# EAGLE library part M08 (library pierre_vv)
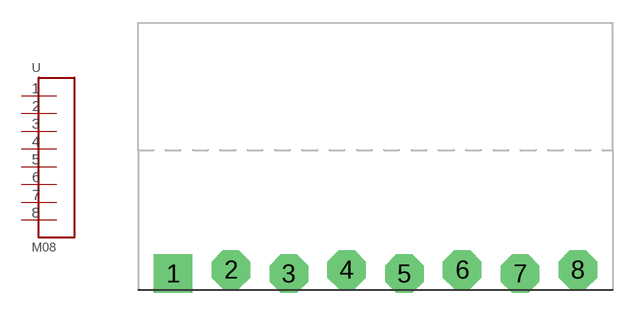
[diagram p13: symbol with the pads of PLUG_08; footprint PLUG_08]

Designator prefix -

## M08  [PLUG_08]
1  1
2  2
3  3
4  4
5  5
6  6
7  7
8  8

## Footprint PLUG_08 (pad centres in mm)
drill 1.2 pad 2.54 square: 1 -13.335,-0.127
drill 1.2 pad 2.54 octagon: 2 -9.525,0.127; 3 -5.715,-0.127; 4 -1.905,0.127; 5 1.905,-0.127; 6 5.715,0.127; 7 9.525,-0.127; 8 13.335,0.127